# EAGLE library part IL-AG5-10P-S3T2 (library con-jae)
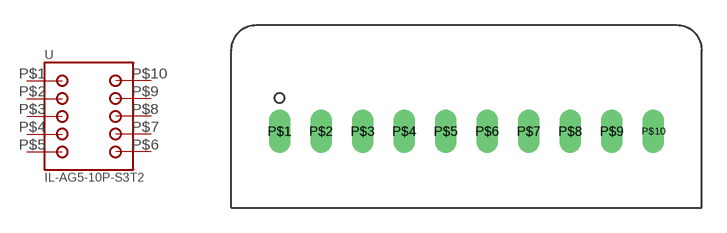
[diagram p0: symbol with the pads of IL-AG5-10P-S3T2; footprint IL-AG5-10P-S3T2]

Designator prefix -

## IL-AG5-10P-S3T2  [IL-AG5-10P-S3T2]
P$1  P$1
P$2  P$2
P$3  P$3
P$4  P$4
P$5  P$5
P$6  P$6
P$7  P$7
P$8  P$8
P$9  P$9
P$10  P$10

## Footprint IL-AG5-10P-S3T2 (pad centres in mm)
drill 0.8 long: P$1 2.9,4.6; P$2 5.4,4.6; P$3 7.9,4.6; P$4 10.4,4.6; P$5 12.9,4.6; P$6 15.4,4.6; P$7 17.9,4.6; P$8 20.4,4.6; P$9 22.9,4.6; P$10 25.4,4.6